# Altium schematic symbol library QUTMS_CANLibrary.SchLib: 2 symbols
Pins are listed as number, name and electrical type; pins without a type are passive.

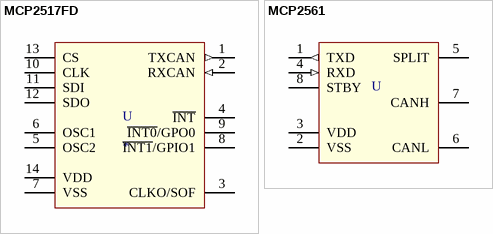
[diagram p0: symbols MCP2517FD to MCP2561]

## MCP2517FD
designator U
footprint MCP2517FD SOIC
pins: 1 TXCAN (out), 2 RXCAN (in), 3 CLKO/SOF, 4 ~{INT}, 5 OSC2, 6 OSC1, 7 VSS, 8 ~{INT1}/GPIO1, 9 ~{INT0}/GPO0, 10 CLK, 11 SDI, 12 SDO, 13 CS, 14 VDD

## MCP2561
designator U
footprint MCP2561 SOIC
pins: 1 TXD (out), 2 VSS, 3 VDD, 4 RXD (in), 5 SPLIT, 6 CANL, 7 CANH, 8 STBY